# EAGLE library part LP38693 (library Radio Projekt)
V Converter .dev
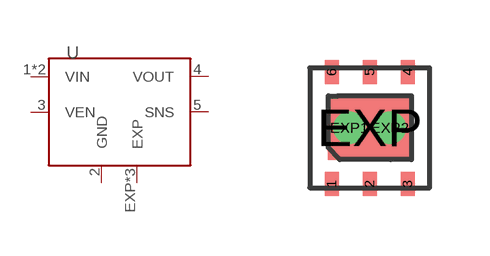
[diagram p0: symbol with the pads of LP38693_WSON; footprint LP38693_WSON]

Designator prefix -

## LP38693  [LP38693_WSON]
1  VIN
2  GND
3  VEN
4  VOUT
5  SNS
6  VIN
EXP  EXP
EXP1  EXP
EXP2  EXP

## Footprint LP38693_WSON (pad centres in mm)
V Converter .pac
smd 0.35 x 0.6: 1 -0.95,-1.4; 2 0,-1.4; 3 0.95,-1.4; 4 0.95,1.4; 5 0,1.4; 6 -0.95,1.4
smd 2.1 x 1.6: EXP 0,0
drill 0.3 pad 0.35: EXP1 -0.508,0; EXP2 0.508,0